# EAGLE library part ADXL327 (library chips)
ADXL327 3-Axis Analog Accelerometer
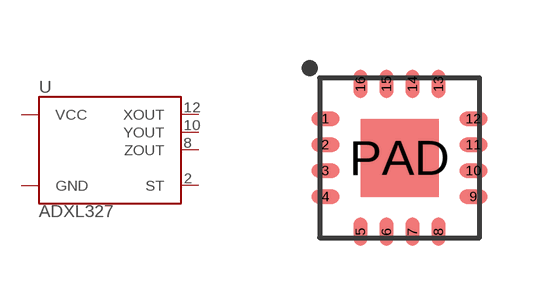
[diagram p93: symbol with the pads of LFCSP-16; footprint LFCSP-16]

Designator prefix U

## ADXL327 (DIGIKEY: ADXL327BCPZ-ND)  [LFCSP-16]
2  ST
3  GND
5  GND
6  GND
7  GND
8  ZOUT
10  YOUT
12  XOUT
14  VCC
15  VCC

## Footprint LFCSP-16 (pad centres in mm)
smd 0.7 x 0.35: 1 -1.85,0.975; 2 -1.85,0.325; 3 -1.85,-0.325; 4 -1.85,-0.975; 9 1.85,-0.975; 10 1.85,-0.325; 11 1.85,0.325; 12 1.85,0.975
smd 0.35 x 0.7: 5 -0.975,-1.85; 6 -0.325,-1.85; 7 0.325,-1.85; 8 0.975,-1.85; 13 0.975,1.85; 14 0.325,1.85; 15 -0.325,1.85; 16 -0.975,1.85
smd 1.95 x 1.95: PAD 0,0